# EAGLE library part M68776 (library ic)
M68776: MOSFET power amplifier (Mitsubishi) 135-175MHz, 6.5W Pout
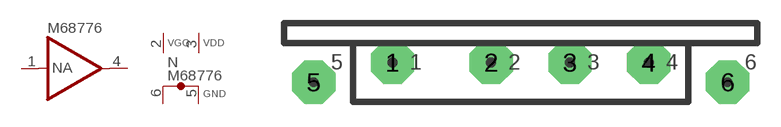
[diagram p50: symbol with the pads of M68776; footprint M68776]

Designator prefix N; gates A=BUF01 P=V2+2GND

## M68776  [M68776]
1  A:IN  in
2  P:VGG  pwr
3  P:VDD  pwr
4  A:OUT  out
5  P:GND  pwr
6  P:GND  pwr

## Footprint M68776 (pad centres in mm)
M68776 special power package
drill 0.813 pad 2.794 octagon: 1 -8.89,0; 2 -2.54,0; 3 2.54,0; 4 7.62,0; 5 -13.97,-1.27; 6 12.7,-1.27